# Altium footprint library CLAP.PcbLib: 265 footprints (part 16 of 17)
Each footprint in its own frame and in the unit in brackets; x right, y up, seen from the top. Pads: shape width x height; smd on the part's side, far side on the other; paste and mask are expansions set on the pad; w line width, h text height; cw(c..) or ccw(c..) is an arc to the next point about the centre after c.
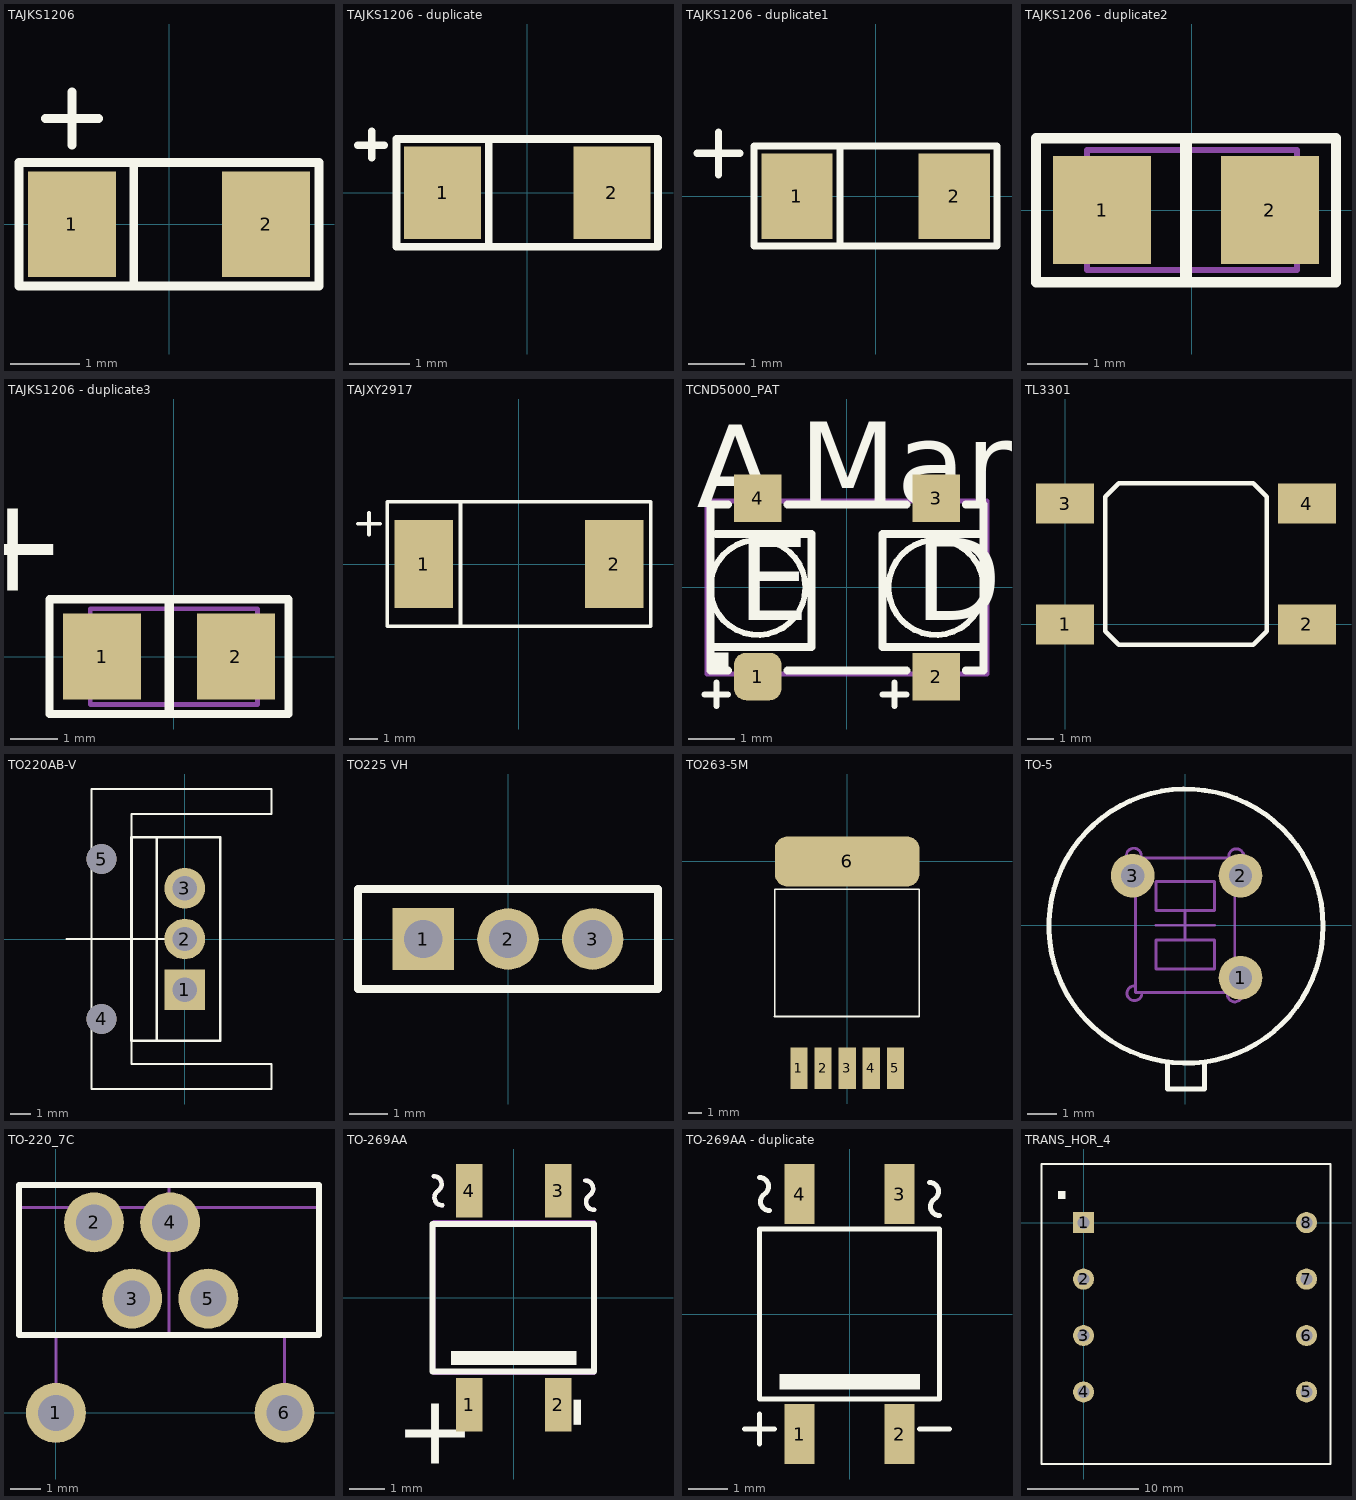
[diagram p15: the footprints below, top view; thin cyan lines are the x and y axes]

## TAJKS1206 [mil]
pads (2):
  rect 50x60 smd: 1(-55,0) 2(55,0)
Top Overlay:
  lines w5: -70,60 -40,60 ; -55,45 -55,75 ; -20,-35 -20,35 ; -85,-35 -85,35 85,35 85,-35 -85,-35
3D body "CAPMP3216X180N.stp": height 62.99, standoff 0, extent -66.92,-35.43 66.93,35.44

## TAJKS1206 - duplicate [mil]
pads (2):
  rect 50x60 smd: 1(-55,0) 2(55,0)
Top Overlay:
  lines w5: -110,31 -93,31 ; -101,23 -101,40 ; -25,-35 -25,35 ; -85,-35 85,-35 85,35 -85,35 -85,-35
3D body "CP_EIA-3216-18_Kemet-A.step": height 70.87, standoff 0, extent -62.99,-31.49 63,31.5

## TAJKS1206 - duplicate1 [mil]
pads (2):
  rect 50x60 smd: 1(-55,0) 2(55,0)
Top Overlay:
  lines w5: -125,30 -95,30 ; -110,15 -110,45 ; -25,-35 -25,35 ; -85,-35 -85,35 85,35 85,-35 -85,-35
3D body "CP_EIA-3216-18_Kemet-A.step": height 70.87, standoff 0, extent -62.99,-31.49 63,31.5

## TAJKS1206 - duplicate2 [mm]
height 2.1
pads (2):
  rect 1.626x1.8 smd: 1(-1.5,0) 2(1.3,0)
Top Overlay:
  lines w0.17: -2.6,-1.2 -2.6,1.2 2.4,1.2 2.4,-1.2 -2.6,-1.2
  lines w0.2: -0.098,-1.16 -0.098,1.09
  text "+" at -2.579,-0.079 h1.98
Mechanical 1:
  lines w0.1: -1.748,-1 -1.748,1 -1.248,1 1.752,1 1.752,-1 -1.748,-1
  text "+" at -0.029,-1.129 h1.98
3D body "CP_EIA-3216-18_Kemet-A.step": height 1.8, standoff 0, extent -1.6,-0.8 1.6,0.8

## TAJKS1206 - duplicate3 [mm]
pads (2):
  rect 1.626x1.8 smd: 1(-1.5,0) 2(1.3,0)
Top Overlay:
  lines w0.17: -2.6,-1.2 -2.6,1.2 2.4,1.2 2.4,-1.2 -2.6,-1.2
  lines w0.2: -0.098,-1.16 -0.098,1.09
  text "+" at -2.224,3.089 h1.98
Mechanical 1:
  lines w0.1: -1.748,-1 -1.748,1 -1.248,1 1.752,1 1.752,-1 -1.748,-1
  text "+" at -1.024,3.039 h1.98
3D body "CP_EIA-3216-18_Kemet-A.step": height 1.8, standoff 0, extent -1.6,-0.8 1.6,0.8

## TAJXY2917 [mil]
pads (2):
  rect 80x120 smd: 1(-130,0) 2(130,0)
Top Overlay:
  lines w5: -220,55 -190,55 ; -205,40 -205,70 ; -80,-85 -80,85 ; -180,-85 180,-85 180,85 -180,85 -180,-85
3D body "CP_EIA-7343-31_Kemet-D.step": height 122.05, standoff 0, extent -143.69,-84.64 143.7,84.65

## TCND5000_PAT [mil]
height 3.9
pads (4):
  rrect50% 40x40 smd: 1(-75,-75)
  rect 40x40 smd: 2(75,-75) 3(75,75) 4(-75,75)
Top Overlay:
  circle w5: c-75,0 r40
  circle w5: c75,0 r40
  region: -115,-55 -100,-55 -100,-70 -115,-70
  lines w5: -120,-90 -100,-90 ; -110,-100 -110,-80 ; 30,-90 50,-90 ; 40,-100 40,-80
  lines w6.69: -115,-50 -30,-50 -30,45 -110,45 ; -100,-70 -115,-70 -115,70 -100,70 ; -50,-70 50,-70 ; -50,70 50,70 ; 100,-70 115,-70 115,70 100,70 ; 115,-50 30,-50 30,45 115,45
  text "A" at -126.25,67.5 h69.44
  text "Mark" at -40,70 h69.44
  text "D" at 56.88,-27.5 h69.44
  text "E" at -91.88,-27.5 h69.44
Mechanical 1:
  lines w3.94: -118.11,-72.83 -118.11,72.83 118.11,72.83 118.11,-72.83 -118.11,-72.83

## TL3301 [mm]
pads (4):
  rect 2.2x1.5 smd: 1(0,0) 2(9.144,0) 3(0,4.572) 4(9.144,4.572)
Top Overlay:
  lines w0.17: 1.524,-0.254 1.524,4.826 2.032,5.334 7.112,5.334 7.62,4.826 7.62,-0.254 7.112,-0.762 2.032,-0.762 1.524,-0.254

## TO220AB-V [mil]
pads (5):
  rect 80x80 hole 48: 1(0,-100)
  round 80 hole 48: 2(0,0) 3(0,100)
  round 59.06 hole 59.06 unplated: 4(-164.06,-157.48) 5(-164.06,157.48)
Top Overlay:
  lines w3.94: -232.95,0 13.11,0 ; -183.74,-295.28 -183.74,295.28 170.59,295.28 170.59,246.06 -105,246.06 -105,-246.06 170.59,-246.06 170.59,-295.28 -183.74,-295.28
  lines w5: -55,-200 -55,200 ; -105,-200 -105,200 70,200 70,-200 -105,-200
3D body "TO-220-3_Vertical.step": height 936.02, standoff -187.01, extent -124.41,-201.77 50.98,201.78

## TO225 VH [mm]
pads (3):
  rect 1.6x1.6 hole 1: 1(-2.2,0)
  round 1.6 hole 1: 2(0,0) 3(2.2,0)
Top Overlay:
  lines w0.2: -3.9,-1.3 -3.9,1.3 3.9,1.3 3.9,-1.3 -3.9,-1.3
Mechanical 1:
  lines w0.1: -3.9,-1.3 -3.9,1.3 3.9,1.3 3.9,-1.3 -3.9,-1.3
3D body "TO-126-3_Vertical.step": height 14, standoff -9.75, extent -4,-1.25 4,2

## TO263-5M [mil]
pads (6):
  rect 50x120 smd: 1(-140,-600) 2(-70,-600) 3(0,-600) 4(70,-600) 5(140,-600)
  rrect50% 420x145 smd: 6(0,0)
Top Overlay:
  lines w5: -211,-450 209,-450 209,-81 -210,-81 -210,-450
3D body "TO-263-5_TabPin3.step": height 174.02, standoff 0, extent -196.85,-595.27 196.85,-4.72

## TO-5 [mm]
height 0.107
pads (3):
  round 1.5 hole 0.8: 1(1.9,-1.8) 2(1.9,1.7) 3(-1.8,1.7)
Top Overlay:
  circle w0.17: c0.029,-0.029 r4.7
  lines w0.17: -0.607,-5.615 0.666,-5.615 ; -0.607,-5.591 -0.607,-4.767 ; 0.666,-5.591 0.666,-4.767
Mechanical 1:
  circle w0.1: c0.029,-0.029 r4.7
  lines w0.1: -1.759,2.131 cw(c-1.759,2.386) -1.512,2.324 ; -1.704,-2.079 ccw(c-1.738,-2.332) -1.484,-2.332 ; -1,0 1,0 ; -0.607,-5.615 0.666,-5.615 ; -0.607,-5.591 -0.607,-4.767 ; 0,-0.5 0,0.5 ; 0.666,-5.591 0.666,-4.767 ; 1.457,-2.312 ccw(c1.704,-2.373) 1.704,-2.118 ; 1.507,2.302 cw(c1.754,2.365) 1.703,2.115 ; -1.7,-2.3 1.7,-2.3 1.7,2.3 -1.7,2.3 -1.7,-2.3 ; -1,-1.5 1,-1.5 1,-0.5 -1,-0.5 -1,-1.5 ; -1,0.5 1,0.5 1,1.5 -1,1.5 -1,0.5
  text "G" at -3.899,0.201 h1.98
  text "D" at 2.601,-3 h1.98
3D body "TO-5-3.step": height 6.6, standoff -10, extent -6.54,-6.649 6.749,6.641

## TO-220_7C [mm]
height 0.508
pads (6):
  round 2 hole 1.2: 1(0,0) 2(1.27,6.35) 3(2.54,3.81) 4(3.81,6.35) 5(5.08,3.81) 6(7.62,0)
Top Overlay:
  lines w0.2: -1.23,2.592 -1.23,7.592 8.77,7.592 8.77,2.592 -1.23,2.592
Mechanical 1:
  lines w0.1: -1.23,6.842 8.77,6.842 ; 0,0 0,2.54 ; 3.77,2.592 3.77,7.592 ; 7.62,0 7.62,2.54 ; -1.23,2.592 -1.23,7.592 8.77,7.592 8.77,2.592 -1.23,2.592
3D body "TO-220-7C.step": height 19.94, standoff -1.5, extent -1.39,-0.51 9.01,7.62

## TO-269AA [mil]
pads (4):
  rect 30x60 smd: 1(-50,-120) 2(50,-120) 3(50,120) 4(-50,120)
Top Overlay:
  region: -70,-60 -70,-75 70,-75 70,-60
  lines w5: -90,136.51 cw(c-90,127.5) -85,120 ccw(c-80,112.5) -80,103.49 ; 80,131.51 cw(c80,122.5) 85,115 ccw(c90,107.5) 90,98.49
  lines w6.69: -91.34,-82.68 89.76,-82.68 89.76,82.68 -91.34,82.68 -91.34,-82.68
  text "-" at 41.78,-109.2 h78.12
  text "+" at -132.93,-186.57 h78.12
Mechanical 1:
  lines w3.94: -90,-85 90,-85 90,85 -90,85 -90,-85
  lines w5: -90,136.51 cw(c-90,127.5) -85,120 ccw(c-80,112.5) -80,103.49 ; 80,131.51 cw(c80,122.5) 85,115 ccw(c90,107.5) 90,98.49
  text "-" at 32.43,-164.92 h78.12
  text "+" at -97.5,-166.89 h78.12
3D body "TO-269AA.stp": height 114.17, standoff 0, extent -97.44,-135.83 97.44,135.83

## TO-269AA - duplicate [mil]
pads (4):
  rect 30x60 smd: 1(-50,-120) 2(50,-120) 3(50,120) 4(-50,120)
Top Overlay:
  region: -70,-60 -70,-75 70,-75 70,-60
  lines w5: -105,-115 -75,-115 ; -90,-130 -90,-100 ; -90,136.51 cw(c-90,127.5) -85,120 ccw(c-80,112.5) -80,103.49 ; 70,-115 100,-115 ; 80,131.51 cw(c80,122.5) 85,115 ccw(c90,107.5) 90,98.49 ; -90,-85 90,-85 90,85 -90,85 -90,-85
3D body "TO-269AA.stp": height 114.17, standoff 0, extent -97.44,-135.82 97.44,135.83

## TRANS_HOR_4 [mm]
pads (8):
  rect 1.9x1.9 hole 1.1: 1(0,0)
  round 1.9 hole 1.1: 2(0,-5.08) 3(0,-10.16) 4(0,-15.24) 5(20.066,-15.24) 6(20.066,-10.16) 7(20.066,-5.08) 8(20.066,0)
Top Overlay:
  region: -1.639,2.806 -2.274,2.806 -2.274,2.171 -1.639,2.171
  lines w0.2: -3.778,-21.722 22.222,-21.722 22.222,5.278 -3.778,5.278 -3.778,-21.722